# Altium schematic symbol library TMCS1108A4BQDR.SchLib: 2 symbols
Pins are listed as number, name and electrical type; pins without a type are passive.

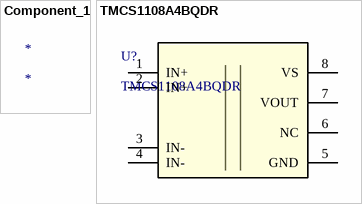
[diagram p0: symbols Component_1 to TMCS1108A4BQDR]

## Component_1
designator *

## TMCS1108A4BQDR
designator U?
No Description Available; Mfr_Name: Texas Instruments; Type: DEV; RefDes: RefDes; Copyright: Copyright (C) 2022 Ultra Librarian. All rights reserved.; Manufacturer_Part_Number: TMCS1108A4BQDR
footprint D0008A-IPC_A
pins: 1 IN+, 2 IN+, 3 IN-, 4 IN-, 5 GND (power), 6 NC, 7 VOUT, 8 VS (power)